# Altium schematic symbol library LM3886TF.SchLib: 1 symbol
Pins are listed as number, name and electrical type; pins without a type are passive.

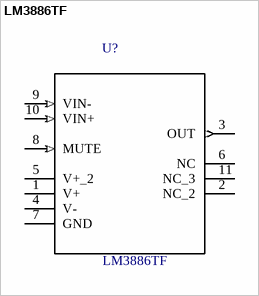
[diagram p0: symbol LM3886TF]

## LM3886TF
designator U?
MF: Texas; Price: None; SnapEDA_Link: https://www.snapeda.com/symbols-footprints/LM3886TF/Texas%20Instruments/view-part/?ref=snap; Availability: Unavailable; Package: TO-220-11 Texas; MP: LM3886TF; Value: *
footprint AMP_LM3886T
pins: 1 V+ (power), 2 NC_2, 3 OUT (out), 4 V- (power), 5 V+_2 (power), 6 NC, 7 GND (power), 8 MUTE (in), 9 VIN- (in), 10 VIN+ (in), 11 NC_3